# Altium schematic symbol library LED_DUAL.SchLib: 1 symbol
Pins are listed as number, name and electrical type; pins without a type are passive.

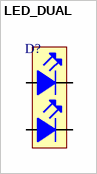
[diagram p0: symbol LED_DUAL]

## LED_DUAL
designator D?  (value not drawn)
pins: A1, A2, K1, K2